# Altium schematic symbol library MT48LC16M16A2.SchLib: 1 symbol
Pins are listed as number, name and electrical type; pins without a type are passive.

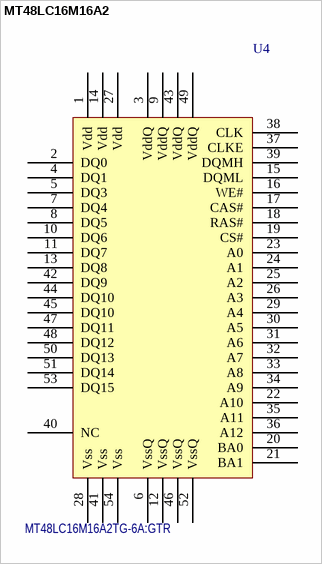
[diagram p0: symbol MT48LC16M16A2]

## MT48LC16M16A2
designator U4  Наименование: MT48LC16M16A2TG-6A:GTR  (hidden comment: MT48LC16M16A2)
Микросхема MT48LC16M16A2TG-6A:GTR; Pkg: TSOP54; Soldering number: 54; Назначение: SDRAM; Part Field 1: MT48LC16M16A2; Part Number: MT48LC16M16A2TG-6A :GTR; Mount: Mount; MountType: SMD
footprint TSOP-54 (TSOP, 54-Leads, Body 22,22x10,16mm, Pitch 0,80mm, IPC Medium Density)
pins: 1 Vdd, 2 DQ0, 3 VddQ, 4 DQ1, 5 DQ3, 6 VssQ, 7 DQ4, 8 DQ5, 9 VddQ, 10 DQ6, 11 DQ7, 12 VssQ, 13 DQ8, 14 Vdd, 15 DQML, 16 WE#, 17 CAS#, 18 RAS#, 19 CS#, 20 BA0, 21 BA1, 22 A10, 23 A0, 24 A1, 25 A2, 26 A3, 27 Vdd, 28 Vss, 29 A4, 30 A5, 31 A6, 32 A7, 33 A8, 34 A9, 35 A11, 36 A12, 37 CLKE, 38 CLK, 39 DQMH, 40 NC, 41 Vss, 42 DQ9, 43 VddQ, 44 DQ10, 45 DQ10, 46 VssQ, 47 DQ11, 48 DQ12, 49 VddQ, 50 DQ13, 51 DQ14, 52 VssQ, 53 DQ15, 54 Vss